# Altium integrated library Texas Instruments Interface RS-422.IntLib: 548 symbols (part 8 of 15)
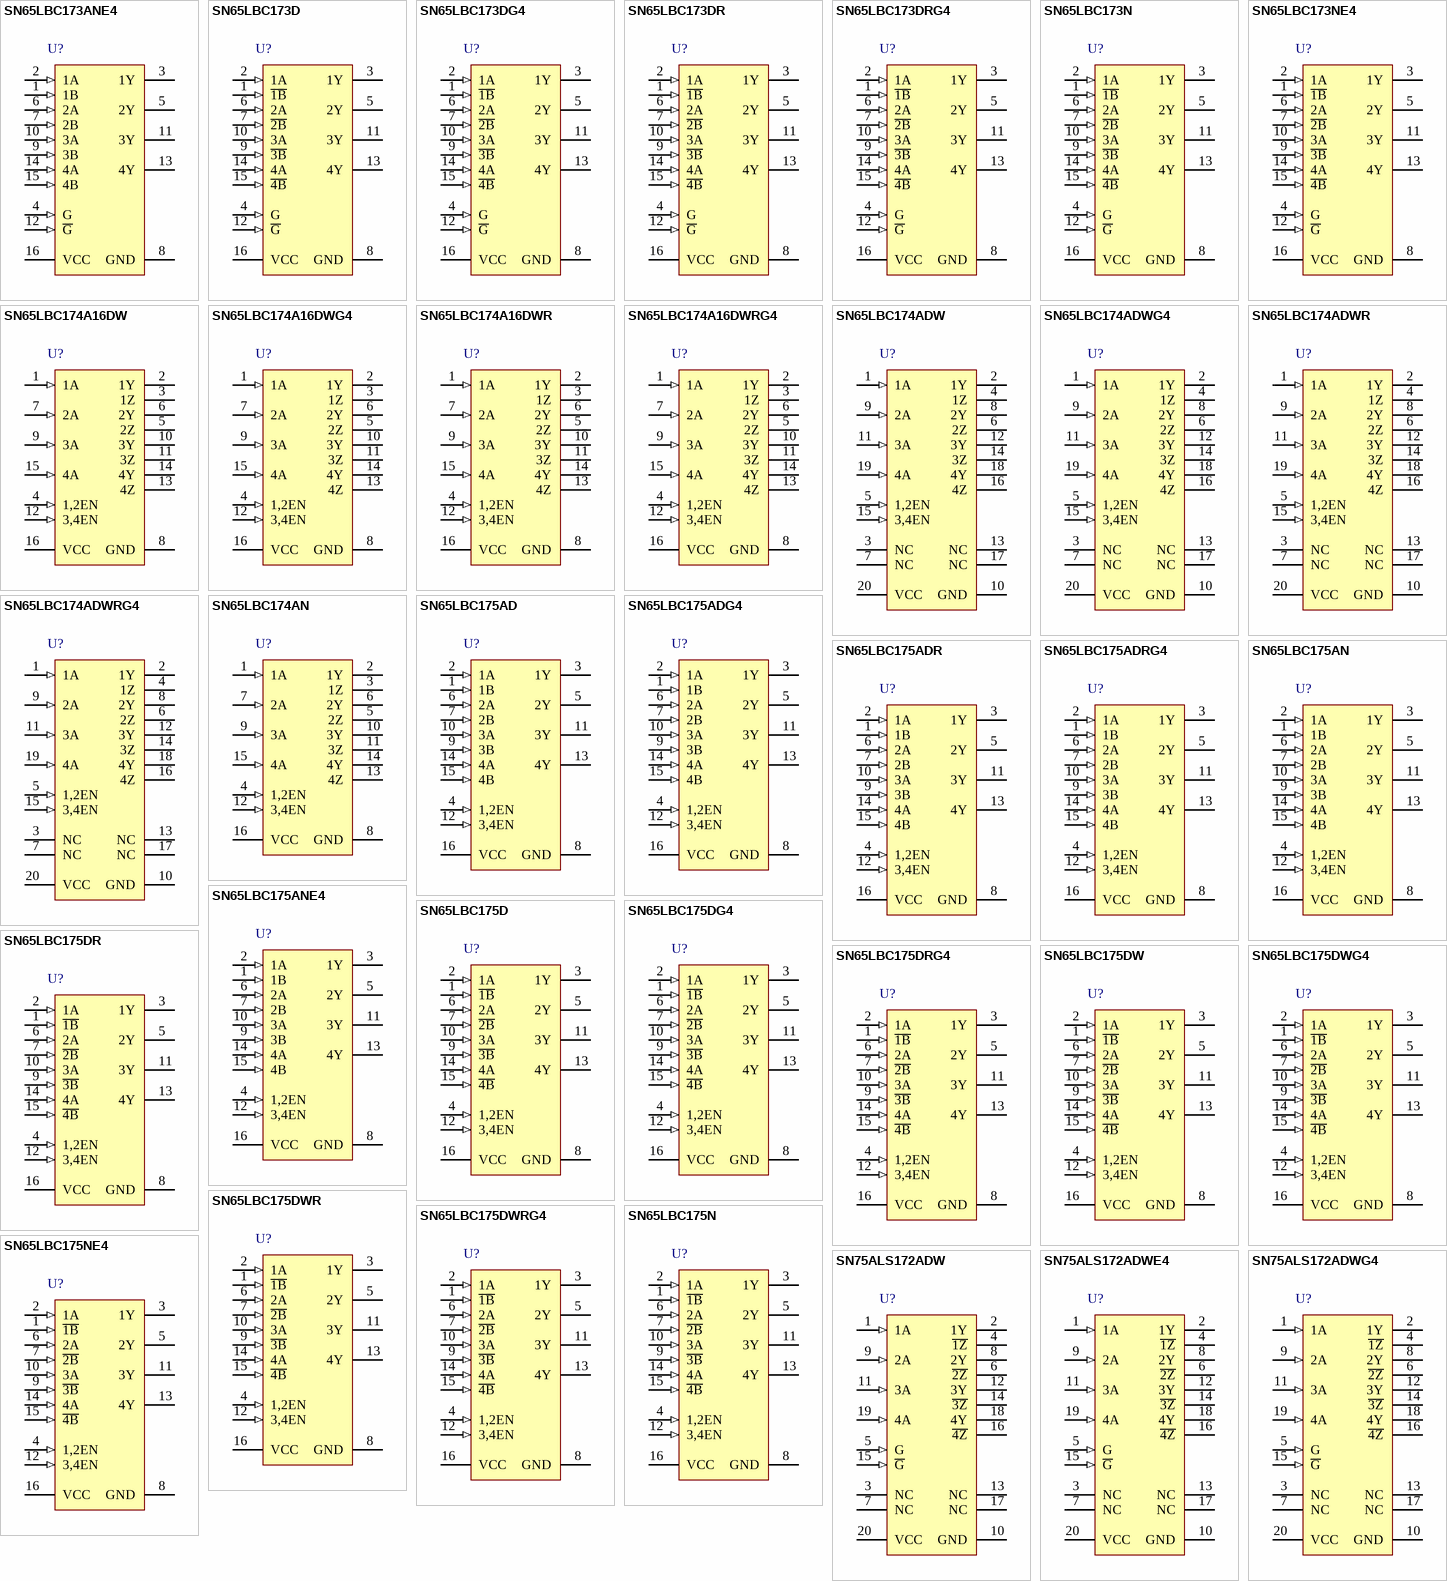
[diagram p22: symbols SN65LBC173ANE4 to SN75ALS172ADWG4]

## SN65LBC175AD
designator U?
Quadruple RS-485 Differential Line Receiver, 0 TX / 4 RX, 5V, -40 to 85 degC, 16-Pin SOIC (D), Green (RoHS & no Sb/Br); PartNumber: SN65LBC175AD; Manufacturer: Texas Instruments; SubFamily: RS-422; Receivers Per Package: 4; ICC(Max)(mA): 20; Supply Voltage(s)(V): 5; Rating: Catalog; DatasheetVersion: SLLS455C; PackageVersion: revM, Jun-2011; PackageReference: D16; PackageDescription: 16-Pin Plastic Small Outline Integrated Circuit, 9.9 x 3.9 mm, Pitch 1.27 mm Pitch; Mounting Technology: Surface Mount; Eco-Plan: Green (RoHS & no Sb/Br); # of TX/RX: 0 TX / 4 RX; ESD(kV): 5; Footprint: MC3486; Isolated: No; Code_JEDEC: MS-012AC; ComponentLink1Description: Datasheet; ComponentLink1URL: http://www.ti.com/general/docs/lit/getliterature.tsp?genericPartNumber=SN65LBC175A&fileType=pdf; ComponentLink2Description: Package Specification; ComponentLink2URL: http://www.ti.com/litv/pdf/mpds178g
footprint D16_N (SOIC, 16-Leads, Body 9.9x3.9mm, Pitch 1.27mm, IPC Medium Density)
footprint D16_L (SOIC, 16-Leads, Body 9.9x3.9mm, Pitch 1.27mm, IPC High Density)
footprint D16_M (SOIC, 16-Leads, Body 9.9x3.9mm, Pitch 1.27mm, IPC Low Density)
pins: 1 1B (in), 2 1A (in), 3 1Y (hiz), 4 1,2EN (in), 5 2Y (hiz), 6 2A (in), 7 2B (in), 8 GND (power), 9 3B (in), 10 3A (in), 11 3Y (hiz), 12 3,4EN (in), 13 4Y (hiz), 14 4A (in), 15 4B (in), 16 VCC (power)

## SN65LBC175ADG4
designator U?
Quadruple RS-485 Differential Line Receiver, 0 TX / 4 RX, 5V, -40 to 85 degC, 16-Pin SOIC (D), Green (RoHS & no Sb/Br); PartNumber: SN65LBC175ADG4; Manufacturer: Texas Instruments; SubFamily: RS-422; Receivers Per Package: 4; ICC(Max)(mA): 20; Supply Voltage(s)(V): 5; Rating: Catalog; DatasheetVersion: SLLS455C; PackageVersion: revM, Jun-2011; PackageReference: D16; PackageDescription: 16-Pin Plastic Small Outline Integrated Circuit, 9.9 x 3.9 mm, Pitch 1.27 mm Pitch; Mounting Technology: Surface Mount; Eco-Plan: Green (RoHS & no Sb/Br); # of TX/RX: 0 TX / 4 RX; ESD(kV): 5; Footprint: MC3486; Isolated: No; Code_JEDEC: MS-012AC; ComponentLink1Description: Datasheet; ComponentLink1URL: http://www.ti.com/general/docs/lit/getliterature.tsp?genericPartNumber=SN65LBC175A&fileType=pdf; ComponentLink2Description: Package Specification; ComponentLink2URL: http://www.ti.com/litv/pdf/mpds178g
footprint D16_N (SOIC, 16-Leads, Body 9.9x3.9mm, Pitch 1.27mm, IPC Medium Density)
footprint D16_L (SOIC, 16-Leads, Body 9.9x3.9mm, Pitch 1.27mm, IPC High Density)
footprint D16_M (SOIC, 16-Leads, Body 9.9x3.9mm, Pitch 1.27mm, IPC Low Density)
pins: 1 1B (in), 2 1A (in), 3 1Y (hiz), 4 1,2EN (in), 5 2Y (hiz), 6 2A (in), 7 2B (in), 8 GND (power), 9 3B (in), 10 3A (in), 11 3Y (hiz), 12 3,4EN (in), 13 4Y (hiz), 14 4A (in), 15 4B (in), 16 VCC (power)

## SN65LBC175ADR
designator U?
Quadruple RS-485 Differential Line Receiver, 0 TX / 4 RX, 5V, -40 to 85 degC, 16-Pin SOIC (D), Green (RoHS & no Sb/Br); PartNumber: SN65LBC175ADR; Manufacturer: Texas Instruments; SubFamily: RS-422; Receivers Per Package: 4; ICC(Max)(mA): 20; Supply Voltage(s)(V): 5; Rating: Catalog; DatasheetVersion: SLLS455C; PackageVersion: revM, Jun-2011; PackageReference: D16; PackageDescription: 16-Pin Plastic Small Outline Integrated Circuit, 9.9 x 3.9 mm, Pitch 1.27 mm Pitch; Mounting Technology: Surface Mount; Eco-Plan: Green (RoHS & no Sb/Br); # of TX/RX: 0 TX / 4 RX; ESD(kV): 5; Footprint: MC3486; Isolated: No; Code_JEDEC: MS-012AC; ComponentLink1Description: Datasheet; ComponentLink1URL: http://www.ti.com/general/docs/lit/getliterature.tsp?genericPartNumber=SN65LBC175A&fileType=pdf; ComponentLink2Description: Package Specification; ComponentLink2URL: http://www.ti.com/litv/pdf/mpds178g
footprint D16_N (SOIC, 16-Leads, Body 9.9x3.9mm, Pitch 1.27mm, IPC Medium Density)
footprint D16_L (SOIC, 16-Leads, Body 9.9x3.9mm, Pitch 1.27mm, IPC High Density)
footprint D16_M (SOIC, 16-Leads, Body 9.9x3.9mm, Pitch 1.27mm, IPC Low Density)
pins: 1 1B (in), 2 1A (in), 3 1Y (hiz), 4 1,2EN (in), 5 2Y (hiz), 6 2A (in), 7 2B (in), 8 GND (power), 9 3B (in), 10 3A (in), 11 3Y (hiz), 12 3,4EN (in), 13 4Y (hiz), 14 4A (in), 15 4B (in), 16 VCC (power)

## SN65LBC175ADRG4
designator U?
Quadruple RS-485 Differential Line Receiver, 0 TX / 4 RX, 5V, -40 to 85 degC, 16-Pin SOIC (D), Green (RoHS & no Sb/Br); PartNumber: SN65LBC175ADRG4; Manufacturer: Texas Instruments; SubFamily: RS-422; Receivers Per Package: 4; ICC(Max)(mA): 20; Supply Voltage(s)(V): 5; Rating: Catalog; DatasheetVersion: SLLS455C; PackageVersion: revM, Jun-2011; PackageReference: D16; PackageDescription: 16-Pin Plastic Small Outline Integrated Circuit, 9.9 x 3.9 mm, Pitch 1.27 mm Pitch; Mounting Technology: Surface Mount; Eco-Plan: Green (RoHS & no Sb/Br); # of TX/RX: 0 TX / 4 RX; ESD(kV): 5; Footprint: MC3486; Isolated: No; Code_JEDEC: MS-012AC; ComponentLink1Description: Datasheet; ComponentLink1URL: http://www.ti.com/general/docs/lit/getliterature.tsp?genericPartNumber=SN65LBC175A&fileType=pdf; ComponentLink2Description: Package Specification; ComponentLink2URL: http://www.ti.com/litv/pdf/mpds178g
footprint D16_N (SOIC, 16-Leads, Body 9.9x3.9mm, Pitch 1.27mm, IPC Medium Density)
footprint D16_L (SOIC, 16-Leads, Body 9.9x3.9mm, Pitch 1.27mm, IPC High Density)
footprint D16_M (SOIC, 16-Leads, Body 9.9x3.9mm, Pitch 1.27mm, IPC Low Density)
pins: 1 1B (in), 2 1A (in), 3 1Y (hiz), 4 1,2EN (in), 5 2Y (hiz), 6 2A (in), 7 2B (in), 8 GND (power), 9 3B (in), 10 3A (in), 11 3Y (hiz), 12 3,4EN (in), 13 4Y (hiz), 14 4A (in), 15 4B (in), 16 VCC (power)

## SN65LBC175AN
designator U?
Quadruple RS-485 Differential Line Receivers, 0 TX / 4 RX, 5V, -40 to 85 degC, 16-Pin PDIP (N), Green (RoHS & no Sb/Br); PartNumber: SN65LBC175AN; Manufacturer: Texas Instruments; SubFamily: RS-422; Receivers Per Package: 4; ICC(Max)(mA): 20; Supply Voltage(s)(V): 5; Rating: Catalog; DatasheetVersion: SLLS455C; PackageVersion: revE, Dec-2002; PackageReference: N16; PackageDescription: 16-Pin Plastic Dual-In-Line Package, Row Spacing 7.62 mm, Pitch 2.54 mm; Mounting Technology: Through-hole; Eco-Plan: Green (RoHS & no Sb/Br); # of TX/RX: 0 TX / 4 RX; ESD(kV): 5; Footprint: MC3486; Isolated: No; Code_JEDEC: MS-001*; ComponentLink1Description: Datasheet; ComponentLink1URL: http://www.ti.com/general/docs/lit/getliterature.tsp?genericPartNumber=SN65LBC175A&fileType=pdf; ComponentLink2Description: Package Specification; ComponentLink2URL: http://www.ti.com/lit/ml/mpdi002c/mpdi002c.pdf
footprint N16 (DIP, 16-Leads, Row Spacing 7.62mm, Pitch 2.54mm, Body 19.3x6.4mm)
pins: 1 1B (in), 2 1A (in), 3 1Y (hiz), 4 1,2EN (in), 5 2Y (hiz), 6 2A (in), 7 2B (in), 8 GND (power), 9 3B (in), 10 3A (in), 11 3Y (hiz), 12 3,4EN (in), 13 4Y (hiz), 14 4A (in), 15 4B (in), 16 VCC (power)

## SN65LBC175ANE4
designator U?
Quadruple Low-Power Differential Line Receiver, 0 TX / 4 RX, 5V, -40 to 85 degC, 16-Pin PDIP (N), Pb-Free (RoHS); PartNumber: SN65LBC175ANE4; Manufacturer: Texas Instruments; Eco-Plan: Green (RoHS & no Sb/Br); SubFamily: RS-422; Receivers Per Package: 4; ICC(Max)(mA): 20; Supply Voltage(s)(V): 5; Isolated: No; Rating: Catalog; DatasheetVersion: SLLS455C; PackageVersion: revE, Dec-2002; PackageReference: N16; PackageDescription: 16-Pin Plastic Dual-In-Line Package, Row Spacing 7.62 mm, Pitch 2.54 mm; Mounting Technology: Through-hole; # of TX/RX: 0 TX / 4 RX; ESD(kV): 5; Footprint: MC3486; Code_JEDEC: MS-001*; ComponentLink1Description: Datasheet; ComponentLink1URL: http://www.ti.com/general/docs/lit/getliterature.tsp?genericPartNumber=SN65LBC175A&fileType=pdf; ComponentLink2Description: Package Specification; ComponentLink2URL: http://www.ti.com/lit/ml/mpdi002c/mpdi002c.pdf
footprint N16 (DIP, 16-Leads, Row Spacing 7.62mm, Pitch 2.54mm, Body 19.3x6.4mm)
pins: 1 1B (in), 2 1A (in), 3 1Y (hiz), 4 1,2EN (in), 5 2Y (hiz), 6 2A (in), 7 2B (in), 8 GND (power), 9 3B (in), 10 3A (in), 11 3Y (hiz), 12 3,4EN (in), 13 4Y (hiz), 14 4A (in), 15 4B (in), 16 VCC (power)

## SN65LBC175D
designator U?
Quadruple Low-Power Differential Line Receiver, 0 TX / 4 RX, 5V, -40 to 85 degC, 16-Pin SOIC (D), Green (RoHS & no Sb/Br); PartNumber: SN65LBC175D; Manufacturer: Texas Instruments; SubFamily: RS-422; Receivers Per Package: 4; ICC(Max)(mA): 20; Supply Voltage(s)(V): 5; ESD(kV): 1; Rating: Catalog; DatasheetVersion: SLLS171G; PackageVersion: revM, Jun-2011; PackageReference: D16; PackageDescription: 16-Pin Plastic Small Outline Integrated Circuit, 9.9 x 3.9 mm, Pitch 1.27 mm Pitch; Mounting Technology: Surface Mount; Eco-Plan: Green (RoHS & no Sb/Br); # of TX/RX: 0 TX / 4 RX; Footprint: MC3486; Isolated: No; Code_JEDEC: MS-012AC; ComponentLink1Description: Datasheet; ComponentLink1URL: http://www.ti.com/general/docs/lit/getliterature.tsp?genericPartNumber=SN65LBC175&fileType=pdf; ComponentLink2Description: Package Specification; ComponentLink2URL: http://www.ti.com/litv/pdf/mpds178g
footprint D16_N (SOIC, 16-Leads, Body 9.9x3.9mm, Pitch 1.27mm, IPC Medium Density)
footprint D16_L (SOIC, 16-Leads, Body 9.9x3.9mm, Pitch 1.27mm, IPC High Density)
footprint D16_M (SOIC, 16-Leads, Body 9.9x3.9mm, Pitch 1.27mm, IPC Low Density)
pins: 1 ~{1B} (in), 2 1A (in), 3 1Y (hiz), 4 1,2EN (in), 5 2Y (hiz), 6 2A (in), 7 ~{2B} (in), 8 GND (power), 9 ~{3B} (in), 10 3A (in), 11 3Y (hiz), 12 3,4EN (in), 13 4Y (hiz), 14 4A (in), 15 ~{4B} (in), 16 VCC (power)

## SN65LBC175DG4
designator U?
Quadruple Low-Power Differential Line Receiver, 0 TX / 4 RX, 5V, -40 to 85 degC, 16-Pin SOIC (D), Green (RoHS & no Sb/Br); PartNumber: SN65LBC175DG4; Manufacturer: Texas Instruments; SubFamily: RS-422; Receivers Per Package: 4; ICC(Max)(mA): 20; Supply Voltage(s)(V): 5; ESD(kV): 1; Rating: Catalog; DatasheetVersion: SLLS171G; PackageVersion: revM, Jun-2011; PackageReference: D16; PackageDescription: 16-Pin Plastic Small Outline Integrated Circuit, 9.9 x 3.9 mm, Pitch 1.27 mm Pitch; Mounting Technology: Surface Mount; Eco-Plan: Green (RoHS & no Sb/Br); # of TX/RX: 0 TX / 4 RX; Footprint: MC3486; Isolated: No; Code_JEDEC: MS-012AC; ComponentLink1Description: Datasheet; ComponentLink1URL: http://www.ti.com/general/docs/lit/getliterature.tsp?genericPartNumber=SN65LBC175&fileType=pdf; ComponentLink2Description: Package Specification; ComponentLink2URL: http://www.ti.com/litv/pdf/mpds178g
footprint D16_N (SOIC, 16-Leads, Body 9.9x3.9mm, Pitch 1.27mm, IPC Medium Density)
footprint D16_L (SOIC, 16-Leads, Body 9.9x3.9mm, Pitch 1.27mm, IPC High Density)
footprint D16_M (SOIC, 16-Leads, Body 9.9x3.9mm, Pitch 1.27mm, IPC Low Density)
pins: 1 ~{1B} (in), 2 1A (in), 3 1Y (hiz), 4 1,2EN (in), 5 2Y (hiz), 6 2A (in), 7 ~{2B} (in), 8 GND (power), 9 ~{3B} (in), 10 3A (in), 11 3Y (hiz), 12 3,4EN (in), 13 4Y (hiz), 14 4A (in), 15 ~{4B} (in), 16 VCC (power)

## SN65LBC175DR
designator U?
Quadruple Low-Power Differential Line Receiver, 0 TX / 4 RX, 5V, -40 to 85 degC, 16-Pin SOIC (D), Green (RoHS & no Sb/Br); PartNumber: SN65LBC175DR; Manufacturer: Texas Instruments; SubFamily: RS-422; Receivers Per Package: 4; ICC(Max)(mA): 20; Supply Voltage(s)(V): 5; ESD(kV): 1; Rating: Catalog; DatasheetVersion: SLLS171G; PackageVersion: revM, Jun-2011; PackageReference: D16; PackageDescription: 16-Pin Plastic Small Outline Integrated Circuit, 9.9 x 3.9 mm, Pitch 1.27 mm Pitch; Mounting Technology: Surface Mount; Eco-Plan: Green (RoHS & no Sb/Br); # of TX/RX: 0 TX / 4 RX; Footprint: MC3486; Isolated: No; Code_JEDEC: MS-012AC; ComponentLink1Description: Datasheet; ComponentLink1URL: http://www.ti.com/general/docs/lit/getliterature.tsp?genericPartNumber=SN65LBC175&fileType=pdf; ComponentLink2Description: Package Specification; ComponentLink2URL: http://www.ti.com/litv/pdf/mpds178g
footprint D16_N (SOIC, 16-Leads, Body 9.9x3.9mm, Pitch 1.27mm, IPC Medium Density)
footprint D16_L (SOIC, 16-Leads, Body 9.9x3.9mm, Pitch 1.27mm, IPC High Density)
footprint D16_M (SOIC, 16-Leads, Body 9.9x3.9mm, Pitch 1.27mm, IPC Low Density)
pins: 1 ~{1B} (in), 2 1A (in), 3 1Y (hiz), 4 1,2EN (in), 5 2Y (hiz), 6 2A (in), 7 ~{2B} (in), 8 GND (power), 9 ~{3B} (in), 10 3A (in), 11 3Y (hiz), 12 3,4EN (in), 13 4Y (hiz), 14 4A (in), 15 ~{4B} (in), 16 VCC (power)

## SN65LBC175DRG4
designator U?
Quadruple Low-Power Differential Line Receiver, 0 TX / 4 RX, 5V, -40 to 85 degC, 16-Pin SOIC (D), Green (RoHS & no Sb/Br); PartNumber: SN65LBC175DRG4; Manufacturer: Texas Instruments; SubFamily: RS-422; Receivers Per Package: 4; ICC(Max)(mA): 20; Supply Voltage(s)(V): 5; ESD(kV): 1; Rating: Catalog; DatasheetVersion: SLLS171G; PackageVersion: revM, Jun-2011; PackageReference: D16; PackageDescription: 16-Pin Plastic Small Outline Integrated Circuit, 9.9 x 3.9 mm, Pitch 1.27 mm Pitch; Mounting Technology: Surface Mount; Eco-Plan: Green (RoHS & no Sb/Br); # of TX/RX: 0 TX / 4 RX; Footprint: MC3486; Isolated: No; Code_JEDEC: MS-012AC; ComponentLink1Description: Datasheet; ComponentLink1URL: http://www.ti.com/general/docs/lit/getliterature.tsp?genericPartNumber=SN65LBC175&fileType=pdf; ComponentLink2Description: Package Specification; ComponentLink2URL: http://www.ti.com/litv/pdf/mpds178g
footprint D16_N (SOIC, 16-Leads, Body 9.9x3.9mm, Pitch 1.27mm, IPC Medium Density)
footprint D16_L (SOIC, 16-Leads, Body 9.9x3.9mm, Pitch 1.27mm, IPC High Density)
footprint D16_M (SOIC, 16-Leads, Body 9.9x3.9mm, Pitch 1.27mm, IPC Low Density)
pins: 1 ~{1B} (in), 2 1A (in), 3 1Y (hiz), 4 1,2EN (in), 5 2Y (hiz), 6 2A (in), 7 ~{2B} (in), 8 GND (power), 9 ~{3B} (in), 10 3A (in), 11 3Y (hiz), 12 3,4EN (in), 13 4Y (hiz), 14 4A (in), 15 ~{4B} (in), 16 VCC (power)

## SN65LBC175DW
designator U?
Quadruple Low-Power Differential Line Receiver, 0 TX / 4 RX, 5V, -40 to 85 degC, 16-Pin SOIC (DW), Green (RoHS & no Sb/Br); PartNumber: SN65LBC175DW; Manufacturer: Texas Instruments; SubFamily: RS-422; Receivers Per Package: 4; ICC(Max)(mA): 20; Supply Voltage(s)(V): 5; ESD(kV): 1; Rating: Catalog; DatasheetVersion: SLLS171G; PackageVersion: revG, Jan-2011; PackageReference: DW16; PackageDescription: 16-Pin Small Outline Integrated Circuit, 10.3 x 7.5 mm, Pitch 1.27 mm Pitch; Mounting Technology: Surface Mount; Eco-Plan: Green (RoHS & no Sb/Br); # of TX/RX: 0 TX / 4 RX; Footprint: MC3486; Isolated: No; Code_JEDEC: MS-013-AA; ComponentLink1Description: Datasheet; ComponentLink1URL: http://www.ti.com/general/docs/lit/getliterature.tsp?genericPartNumber=SN65LBC175&fileType=pdf; ComponentLink2Description: Package Specification; ComponentLink2URL: http://www.ti.com/litv/pdf/msoi003g
footprint DW16_N (SOIC, 16-Leads, Body 10.3x7.5mm, Pitch 1.27mm, IPC Medium Density)
footprint DW16_L (SOIC, 16-Leads, Body 10.3x7.5mm, Pitch 1.27mm, IPC High Density)
footprint DW16_M (SOIC, 16-Leads, Body 10.3x7.5mm, Pitch 1.27mm, IPC Low Density)
pins: 1 ~{1B} (in), 2 1A (in), 3 1Y (hiz), 4 1,2EN (in), 5 2Y (hiz), 6 2A (in), 7 ~{2B} (in), 8 GND (power), 9 ~{3B} (in), 10 3A (in), 11 3Y (hiz), 12 3,4EN (in), 13 4Y (hiz), 14 4A (in), 15 ~{4B} (in), 16 VCC (power)

## SN65LBC175DWG4
designator U?
Quadruple Low-Power Differential Line Receiver, 0 TX / 4 RX, 5V, -40 to 85 degC, 16-Pin SOIC (DW), Green (RoHS & no Sb/Br); PartNumber: SN65LBC175DWG4; Manufacturer: Texas Instruments; SubFamily: RS-422; Receivers Per Package: 4; ICC(Max)(mA): 20; Supply Voltage(s)(V): 5; ESD(kV): 1; Rating: Catalog; DatasheetVersion: SLLS171G; PackageVersion: revG, Jan-2011; PackageReference: DW16; PackageDescription: 16-Pin Small Outline Integrated Circuit, 10.3 x 7.5 mm, Pitch 1.27 mm Pitch; Mounting Technology: Surface Mount; Eco-Plan: Green (RoHS & no Sb/Br); # of TX/RX: 0 TX / 4 RX; Footprint: MC3486; Isolated: No; Code_JEDEC: MS-013-AA; ComponentLink1Description: Datasheet; ComponentLink1URL: http://www.ti.com/general/docs/lit/getliterature.tsp?genericPartNumber=SN65LBC175&fileType=pdf; ComponentLink2Description: Package Specification; ComponentLink2URL: http://www.ti.com/litv/pdf/msoi003g
footprint DW16_N (SOIC, 16-Leads, Body 10.3x7.5mm, Pitch 1.27mm, IPC Medium Density)
footprint DW16_L (SOIC, 16-Leads, Body 10.3x7.5mm, Pitch 1.27mm, IPC High Density)
footprint DW16_M (SOIC, 16-Leads, Body 10.3x7.5mm, Pitch 1.27mm, IPC Low Density)
pins: 1 ~{1B} (in), 2 1A (in), 3 1Y (hiz), 4 1,2EN (in), 5 2Y (hiz), 6 2A (in), 7 ~{2B} (in), 8 GND (power), 9 ~{3B} (in), 10 3A (in), 11 3Y (hiz), 12 3,4EN (in), 13 4Y (hiz), 14 4A (in), 15 ~{4B} (in), 16 VCC (power)

## SN65LBC175DWR
designator U?
Quadruple Low-Power Differential Line Receiver, 0 TX / 4 RX, 5V, -40 to 85 degC, 16-Pin SOIC (DW), Green (RoHS & no Sb/Br); PartNumber: SN65LBC175DWR; Manufacturer: Texas Instruments; SubFamily: RS-422; Receivers Per Package: 4; ICC(Max)(mA): 20; Supply Voltage(s)(V): 5; ESD(kV): 1; Rating: Catalog; DatasheetVersion: SLLS171G; PackageVersion: revG, Jan-2011; PackageReference: DW16; PackageDescription: 16-Pin Small Outline Integrated Circuit, 10.3 x 7.5 mm, Pitch 1.27 mm Pitch; Mounting Technology: Surface Mount; Eco-Plan: Green (RoHS & no Sb/Br); # of TX/RX: 0 TX / 4 RX; Footprint: MC3486; Isolated: No; Code_JEDEC: MS-013-AA; ComponentLink1Description: Datasheet; ComponentLink1URL: http://www.ti.com/general/docs/lit/getliterature.tsp?genericPartNumber=SN65LBC175&fileType=pdf; ComponentLink2Description: Package Specification; ComponentLink2URL: http://www.ti.com/litv/pdf/msoi003g
footprint DW16_N (SOIC, 16-Leads, Body 10.3x7.5mm, Pitch 1.27mm, IPC Medium Density)
footprint DW16_L (SOIC, 16-Leads, Body 10.3x7.5mm, Pitch 1.27mm, IPC High Density)
footprint DW16_M (SOIC, 16-Leads, Body 10.3x7.5mm, Pitch 1.27mm, IPC Low Density)
pins: 1 ~{1B} (in), 2 1A (in), 3 1Y (hiz), 4 1,2EN (in), 5 2Y (hiz), 6 2A (in), 7 ~{2B} (in), 8 GND (power), 9 ~{3B} (in), 10 3A (in), 11 3Y (hiz), 12 3,4EN (in), 13 4Y (hiz), 14 4A (in), 15 ~{4B} (in), 16 VCC (power)

## SN65LBC175DWRG4
designator U?
Quadruple Low-Power Differential Line Receiver, 0 TX / 4 RX, 5V, -40 to 85 degC, 16-Pin SOIC (DW), Green (RoHS & no Sb/Br); PartNumber: SN65LBC175DWRG4; Manufacturer: Texas Instruments; SubFamily: RS-422; Receivers Per Package: 4; ICC(Max)(mA): 20; Supply Voltage(s)(V): 5; ESD(kV): 1; Rating: Catalog; DatasheetVersion: SLLS171G; PackageVersion: revG, Jan-2011; PackageReference: DW16; PackageDescription: 16-Pin Small Outline Integrated Circuit, 10.3 x 7.5 mm, Pitch 1.27 mm Pitch; Mounting Technology: Surface Mount; Eco-Plan: Green (RoHS & no Sb/Br); # of TX/RX: 0 TX / 4 RX; Footprint: MC3486; Isolated: No; Code_JEDEC: MS-013-AA; ComponentLink1Description: Datasheet; ComponentLink1URL: http://www.ti.com/general/docs/lit/getliterature.tsp?genericPartNumber=SN65LBC175&fileType=pdf; ComponentLink2Description: Package Specification; ComponentLink2URL: http://www.ti.com/litv/pdf/msoi003g
footprint DW16_N (SOIC, 16-Leads, Body 10.3x7.5mm, Pitch 1.27mm, IPC Medium Density)
footprint DW16_L (SOIC, 16-Leads, Body 10.3x7.5mm, Pitch 1.27mm, IPC High Density)
footprint DW16_M (SOIC, 16-Leads, Body 10.3x7.5mm, Pitch 1.27mm, IPC Low Density)
pins: 1 ~{1B} (in), 2 1A (in), 3 1Y (hiz), 4 1,2EN (in), 5 2Y (hiz), 6 2A (in), 7 ~{2B} (in), 8 GND (power), 9 ~{3B} (in), 10 3A (in), 11 3Y (hiz), 12 3,4EN (in), 13 4Y (hiz), 14 4A (in), 15 ~{4B} (in), 16 VCC (power)

## SN65LBC175N
designator U?
Quadruple Low-Power Differential Line Receiver, 0 TX / 4 RX, 5V, -40 to 85 degC, 16-Pin PDIP (N), Green (RoHS & no Sb/Br); PartNumber: SN65LBC175N; Manufacturer: Texas Instruments; SubFamily: RS-422; Receivers Per Package: 4; ICC(Max)(mA): 20; Supply Voltage(s)(V): 5; ESD(kV): 1; Rating: Catalog; DatasheetVersion: SLLS171G; PackageVersion: revE, Dec-2002; PackageReference: N16; PackageDescription: 16-Pin Plastic Dual-In-Line Package, Row Spacing 7.62 mm, Pitch 2.54 mm; Mounting Technology: Through-hole; Eco-Plan: Green (RoHS & no Sb/Br); # of TX/RX: 0 TX / 4 RX; Footprint: MC3486; Isolated: No; Code_JEDEC: MS-001*; ComponentLink1Description: Datasheet; ComponentLink1URL: http://www.ti.com/general/docs/lit/getliterature.tsp?genericPartNumber=SN65LBC175&fileType=pdf; ComponentLink2Description: Package Specification; ComponentLink2URL: http://www.ti.com/lit/ml/mpdi002c/mpdi002c.pdf
footprint N16 (DIP, 16-Leads, Row Spacing 7.62mm, Pitch 2.54mm, Body 19.3x6.4mm)
pins: 1 ~{1B} (in), 2 1A (in), 3 1Y (hiz), 4 1,2EN (in), 5 2Y (hiz), 6 2A (in), 7 ~{2B} (in), 8 GND (power), 9 ~{3B} (in), 10 3A (in), 11 3Y (hiz), 12 3,4EN (in), 13 4Y (hiz), 14 4A (in), 15 ~{4B} (in), 16 VCC (power)

## SN65LBC175NE4
designator U?
Quadruple Low-Power Differential Line Receiver, 0 TX / 4 RX, 5V, -40 to 85 degC, 16-Pin PDIP (N), Green (RoHS & no Sb/Br); PartNumber: SN65LBC175NE4; Manufacturer: Texas Instruments; SubFamily: RS-422; Receivers Per Package: 4; ICC(Max)(mA): 20; Supply Voltage(s)(V): 5; ESD(kV): 1; Rating: Catalog; DatasheetVersion: SLLS171G; PackageVersion: revE, Dec-2002; PackageReference: N16; PackageDescription: 16-Pin Plastic Dual-In-Line Package, Row Spacing 7.62 mm, Pitch 2.54 mm; Mounting Technology: Through-hole; Eco-Plan: Green (RoHS & no Sb/Br); # of TX/RX: 0 TX / 4 RX; Footprint: MC3486; Isolated: No; Code_JEDEC: MS-001*; ComponentLink1Description: Datasheet; ComponentLink1URL: http://www.ti.com/general/docs/lit/getliterature.tsp?genericPartNumber=SN65LBC175&fileType=pdf; ComponentLink2Description: Package Specification; ComponentLink2URL: http://www.ti.com/lit/ml/mpdi002c/mpdi002c.pdf
footprint N16 (DIP, 16-Leads, Row Spacing 7.62mm, Pitch 2.54mm, Body 19.3x6.4mm)
pins: 1 ~{1B} (in), 2 1A (in), 3 1Y (hiz), 4 1,2EN (in), 5 2Y (hiz), 6 2A (in), 7 ~{2B} (in), 8 GND (power), 9 ~{3B} (in), 10 3A (in), 11 3Y (hiz), 12 3,4EN (in), 13 4Y (hiz), 14 4A (in), 15 ~{4B} (in), 16 VCC (power)

## SN75ALS172ADW
designator U?
Quadruple Differential Line Driver, 4 TX / 0 RX, 5V, 0 to 70 degC, 20-Pin SOIC (DW), Green (RoHS & no Sb/Br); PartNumber: SN75ALS172ADW; Manufacturer: Texas Instruments; SubFamily: RS-422; Drivers Per Package: 4; ICC(Max)(mA): 55; Supply Voltage(s)(V): 5; ESD(kV): 2; Rating: Catalog; DatasheetVersion: SLLS121D; PackageVersion: revG, Jan-2011; PackageReference: DW20; PackageDescription: 20-Pin Plastic Small Outline Integrated Circuit, 12.8 x 7.5 mm, Pitch 1.27 mm Pitch; Mounting Technology: Surface Mount; Eco-Plan: Green (RoHS & no Sb/Br); # of TX/RX: 4 TX / 0 RX; Footprint: AM26LS31; Isolated: No; Code_JEDEC: MS-013-AC; ComponentLink1Description: Datasheet; ComponentLink1URL: http://www.ti.com/general/docs/lit/getliterature.tsp?genericPartNumber=SN75ALS172A&fileType=pdf; ComponentLink2Description: Package Specification; ComponentLink2URL: http://www.ti.com/lit/ml/mpds173a/mpds173a.pdf
footprint DW20_N (SOIC, 20-Leads, Body 12.8x7.5mm, Pitch 1.27mm, IPC Medium Density)
footprint DW20_L (SOIC, 20-Leads, Body 12.8x7.5mm, Pitch 1.27mm, IPC High Density)
footprint DW20_M (SOIC, 20-Leads, Body 12.8x7.5mm, Pitch 1.27mm, IPC Low Density)
pins: 1 1A (in), 2 1Y (hiz), 3 NC, 4 ~{1Z} (hiz), 5 G (in), 6 ~{2Z} (hiz), 7 NC, 8 2Y (hiz), 9 2A (in), 10 GND (power), 11 3A (in), 12 3Y (hiz), 13 NC, 14 ~{3Z} (hiz), 15 ~{G} (in), 16 ~{4Z} (hiz), 17 NC, 18 4Y (hiz), 19 4A (in), 20 VCC (power)

## SN75ALS172ADWE4
designator U?
Quadruple Differential Line Driver, 4 TX / 0 RX, 5V, 0 to 70 degC, 20-Pin SOIC (DW), Green (RoHS & no Sb/Br); PartNumber: SN75ALS172ADWE4; Manufacturer: Texas Instruments; SubFamily: RS-422; Drivers Per Package: 4; ICC(Max)(mA): 55; Supply Voltage(s)(V): 5; ESD(kV): 2; Rating: Catalog; DatasheetVersion: SLLS121D; PackageVersion: revG, Jan-2011; PackageReference: DW20; PackageDescription: 20-Pin Plastic Small Outline Integrated Circuit, 12.8 x 7.5 mm, Pitch 1.27 mm Pitch; Mounting Technology: Surface Mount; Eco-Plan: Green (RoHS & no Sb/Br); # of TX/RX: 4 TX / 0 RX; Footprint: AM26LS31; Isolated: No; Code_JEDEC: MS-013-AC; ComponentLink1Description: Datasheet; ComponentLink1URL: http://www.ti.com/general/docs/lit/getliterature.tsp?genericPartNumber=SN75ALS172A&fileType=pdf; ComponentLink2Description: Package Specification; ComponentLink2URL: http://www.ti.com/lit/ml/mpds173a/mpds173a.pdf
footprint DW20_N (SOIC, 20-Leads, Body 12.8x7.5mm, Pitch 1.27mm, IPC Medium Density)
footprint DW20_L (SOIC, 20-Leads, Body 12.8x7.5mm, Pitch 1.27mm, IPC High Density)
footprint DW20_M (SOIC, 20-Leads, Body 12.8x7.5mm, Pitch 1.27mm, IPC Low Density)
pins: 1 1A (in), 2 1Y (hiz), 3 NC, 4 ~{1Z} (hiz), 5 G (in), 6 ~{2Z} (hiz), 7 NC, 8 2Y (hiz), 9 2A (in), 10 GND (power), 11 3A (in), 12 3Y (hiz), 13 NC, 14 ~{3Z} (hiz), 15 ~{G} (in), 16 ~{4Z} (hiz), 17 NC, 18 4Y (hiz), 19 4A (in), 20 VCC (power)

## SN75ALS172ADWG4
designator U?
Quadruple Differential Line Driver, 4 TX / 0 RX, 5V, 0 to 70 degC, 20-Pin SOIC (DW), Green (RoHS & no Sb/Br); PartNumber: SN75ALS172ADWG4; Manufacturer: Texas Instruments; SubFamily: RS-422; Drivers Per Package: 4; ICC(Max)(mA): 55; Supply Voltage(s)(V): 5; ESD(kV): 2; Rating: Catalog; DatasheetVersion: SLLS121D; PackageVersion: revG, Jan-2011; PackageReference: DW20; PackageDescription: 20-Pin Plastic Small Outline Integrated Circuit, 12.8 x 7.5 mm, Pitch 1.27 mm Pitch; Mounting Technology: Surface Mount; Eco-Plan: Green (RoHS & no Sb/Br); # of TX/RX: 4 TX / 0 RX; Footprint: AM26LS31; Isolated: No; Code_JEDEC: MS-013-AC; ComponentLink1Description: Datasheet; ComponentLink1URL: http://www.ti.com/general/docs/lit/getliterature.tsp?genericPartNumber=SN75ALS172A&fileType=pdf; ComponentLink2Description: Package Specification; ComponentLink2URL: http://www.ti.com/lit/ml/mpds173a/mpds173a.pdf
footprint DW20_N (SOIC, 20-Leads, Body 12.8x7.5mm, Pitch 1.27mm, IPC Medium Density)
footprint DW20_L (SOIC, 20-Leads, Body 12.8x7.5mm, Pitch 1.27mm, IPC High Density)
footprint DW20_M (SOIC, 20-Leads, Body 12.8x7.5mm, Pitch 1.27mm, IPC Low Density)
pins: 1 1A (in), 2 1Y (hiz), 3 NC, 4 ~{1Z} (hiz), 5 G (in), 6 ~{2Z} (hiz), 7 NC, 8 2Y (hiz), 9 2A (in), 10 GND (power), 11 3A (in), 12 3Y (hiz), 13 NC, 14 ~{3Z} (hiz), 15 ~{G} (in), 16 ~{4Z} (hiz), 17 NC, 18 4Y (hiz), 19 4A (in), 20 VCC (power)

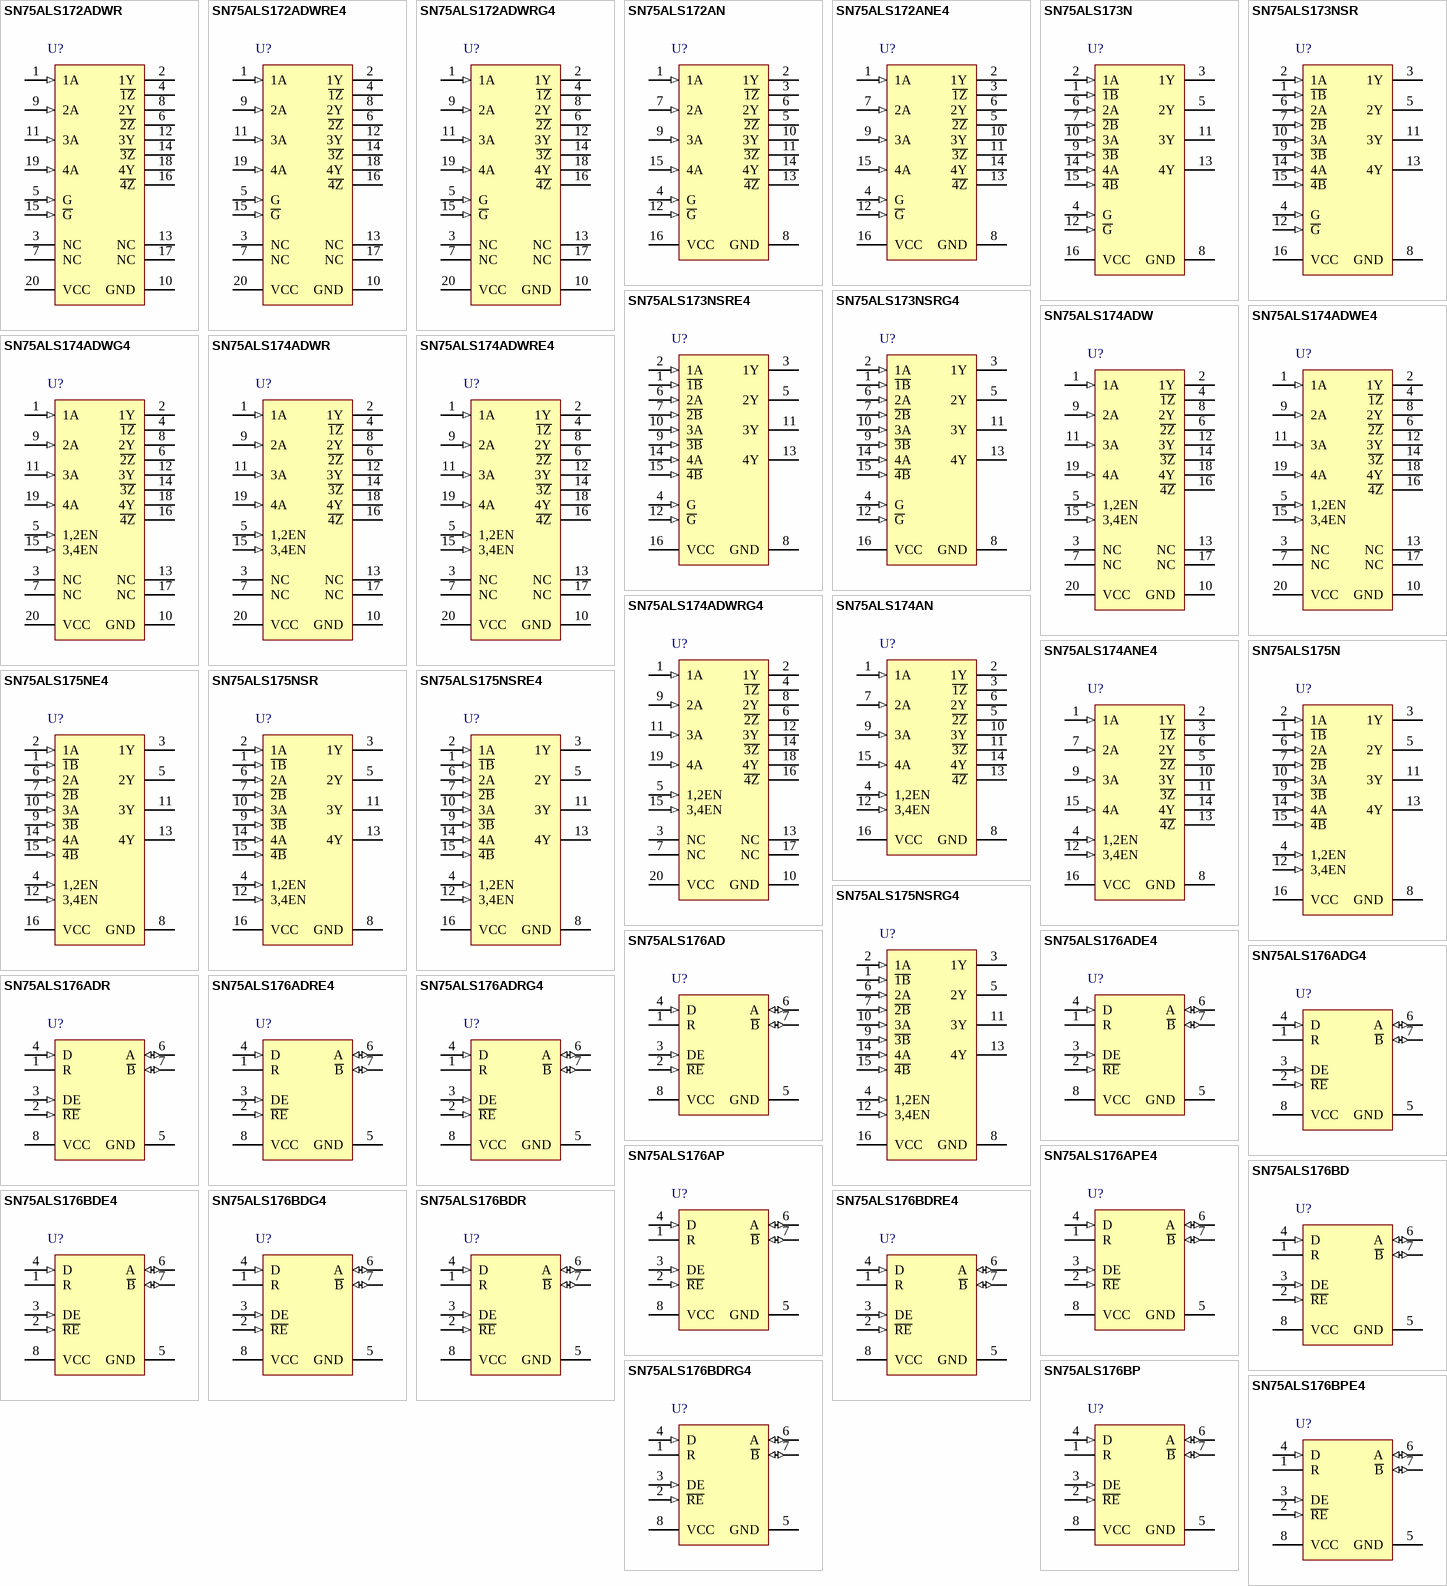
[diagram p8: symbols SN75ALS172ADWR to SN75ALS176BPE4]

## SN75ALS172ADWR
designator U?
Quadruple Differential Line Driver, 4 TX / 0 RX, 5V, 0 to 70 degC, 20-Pin SOIC (DW), Green (RoHS & no Sb/Br); PartNumber: SN75ALS172ADWR; Manufacturer: Texas Instruments; SubFamily: RS-422; Drivers Per Package: 4; ICC(Max)(mA): 55; Supply Voltage(s)(V): 5; ESD(kV): 2; Rating: Catalog; DatasheetVersion: SLLS121D; PackageVersion: revG, Jan-2011; PackageReference: DW20; PackageDescription: 20-Pin Plastic Small Outline Integrated Circuit, 12.8 x 7.5 mm, Pitch 1.27 mm Pitch; Mounting Technology: Surface Mount; Eco-Plan: Green (RoHS & no Sb/Br); # of TX/RX: 4 TX / 0 RX; Footprint: AM26LS31; Isolated: No; Code_JEDEC: MS-013-AC; ComponentLink1Description: Datasheet; ComponentLink1URL: http://www.ti.com/general/docs/lit/getliterature.tsp?genericPartNumber=SN75ALS172A&fileType=pdf; ComponentLink2Description: Package Specification; ComponentLink2URL: http://www.ti.com/lit/ml/mpds173a/mpds173a.pdf
footprint DW20_N (SOIC, 20-Leads, Body 12.8x7.5mm, Pitch 1.27mm, IPC Medium Density)
footprint DW20_L (SOIC, 20-Leads, Body 12.8x7.5mm, Pitch 1.27mm, IPC High Density)
footprint DW20_M (SOIC, 20-Leads, Body 12.8x7.5mm, Pitch 1.27mm, IPC Low Density)
pins: 1 1A (in), 2 1Y (hiz), 3 NC, 4 ~{1Z} (hiz), 5 G (in), 6 ~{2Z} (hiz), 7 NC, 8 2Y (hiz), 9 2A (in), 10 GND (power), 11 3A (in), 12 3Y (hiz), 13 NC, 14 ~{3Z} (hiz), 15 ~{G} (in), 16 ~{4Z} (hiz), 17 NC, 18 4Y (hiz), 19 4A (in), 20 VCC (power)

## SN75ALS172ADWRE4
designator U?
Quadruple Differential Line Driver, 4 TX / 0 RX, 5V, 0 to 70 degC, 20-Pin SOIC (DW), Green (RoHS & no Sb/Br); PartNumber: SN75ALS172ADWRE4; Manufacturer: Texas Instruments; SubFamily: RS-422; Drivers Per Package: 4; ICC(Max)(mA): 55; Supply Voltage(s)(V): 5; ESD(kV): 2; Rating: Catalog; DatasheetVersion: SLLS121D; PackageVersion: revG, Jan-2011; PackageReference: DW20; PackageDescription: 20-Pin Plastic Small Outline Integrated Circuit, 12.8 x 7.5 mm, Pitch 1.27 mm Pitch; Mounting Technology: Surface Mount; Eco-Plan: Green (RoHS & no Sb/Br); # of TX/RX: 4 TX / 0 RX; Footprint: AM26LS31; Isolated: No; Code_JEDEC: MS-013-AC; ComponentLink1Description: Datasheet; ComponentLink1URL: http://www.ti.com/general/docs/lit/getliterature.tsp?genericPartNumber=SN75ALS172A&fileType=pdf; ComponentLink2Description: Package Specification; ComponentLink2URL: http://www.ti.com/lit/ml/mpds173a/mpds173a.pdf
footprint DW20_N (SOIC, 20-Leads, Body 12.8x7.5mm, Pitch 1.27mm, IPC Medium Density)
footprint DW20_L (SOIC, 20-Leads, Body 12.8x7.5mm, Pitch 1.27mm, IPC High Density)
footprint DW20_M (SOIC, 20-Leads, Body 12.8x7.5mm, Pitch 1.27mm, IPC Low Density)
pins: 1 1A (in), 2 1Y (hiz), 3 NC, 4 ~{1Z} (hiz), 5 G (in), 6 ~{2Z} (hiz), 7 NC, 8 2Y (hiz), 9 2A (in), 10 GND (power), 11 3A (in), 12 3Y (hiz), 13 NC, 14 ~{3Z} (hiz), 15 ~{G} (in), 16 ~{4Z} (hiz), 17 NC, 18 4Y (hiz), 19 4A (in), 20 VCC (power)

## SN75ALS172ADWRG4
designator U?
Quadruple Differential Line Driver, 4 TX / 0 RX, 5V, 0 to 70 degC, 20-Pin SOIC (DW), Green (RoHS & no Sb/Br); PartNumber: SN75ALS172ADWRG4; Manufacturer: Texas Instruments; SubFamily: RS-422; Drivers Per Package: 4; ICC(Max)(mA): 55; Supply Voltage(s)(V): 5; ESD(kV): 2; Rating: Catalog; DatasheetVersion: SLLS121D; PackageVersion: revG, Jan-2011; PackageReference: DW20; PackageDescription: 20-Pin Plastic Small Outline Integrated Circuit, 12.8 x 7.5 mm, Pitch 1.27 mm Pitch; Mounting Technology: Surface Mount; Eco-Plan: Green (RoHS & no Sb/Br); # of TX/RX: 4 TX / 0 RX; Footprint: AM26LS31; Isolated: No; Code_JEDEC: MS-013-AC; ComponentLink1Description: Datasheet; ComponentLink1URL: http://www.ti.com/general/docs/lit/getliterature.tsp?genericPartNumber=SN75ALS172A&fileType=pdf; ComponentLink2Description: Package Specification; ComponentLink2URL: http://www.ti.com/lit/ml/mpds173a/mpds173a.pdf
footprint DW20_N (SOIC, 20-Leads, Body 12.8x7.5mm, Pitch 1.27mm, IPC Medium Density)
footprint DW20_L (SOIC, 20-Leads, Body 12.8x7.5mm, Pitch 1.27mm, IPC High Density)
footprint DW20_M (SOIC, 20-Leads, Body 12.8x7.5mm, Pitch 1.27mm, IPC Low Density)
pins: 1 1A (in), 2 1Y (hiz), 3 NC, 4 ~{1Z} (hiz), 5 G (in), 6 ~{2Z} (hiz), 7 NC, 8 2Y (hiz), 9 2A (in), 10 GND (power), 11 3A (in), 12 3Y (hiz), 13 NC, 14 ~{3Z} (hiz), 15 ~{G} (in), 16 ~{4Z} (hiz), 17 NC, 18 4Y (hiz), 19 4A (in), 20 VCC (power)

## SN75ALS172AN
designator U?
Quadruple Differential Line Driver, 4 TX / 0 RX, 5V, 0 to 70 degC, 16-Pin PDIP (N), Green (RoHS & no Sb/Br); PartNumber: SN75ALS172AN; Manufacturer: Texas Instruments; SubFamily: RS-422; Drivers Per Package: 4; ICC(Max)(mA): 55; Supply Voltage(s)(V): 5; ESD(kV): 2; Rating: Catalog; DatasheetVersion: SLLS121D; PackageVersion: revE, Dec-2002; PackageReference: N16; PackageDescription: 16-Pin Plastic Dual-In-Line Package, Row Spacing 7.62 mm, Pitch 2.54 mm; Mounting Technology: Through-hole; Eco-Plan: Green (RoHS & no Sb/Br); # of TX/RX: 4 TX / 0 RX; Footprint: AM26LS31; Isolated: No; Code_JEDEC: MS-001*; ComponentLink1Description: Datasheet; ComponentLink1URL: http://www.ti.com/general/docs/lit/getliterature.tsp?genericPartNumber=SN75ALS172A&fileType=pdf; ComponentLink2Description: Package Specification; ComponentLink2URL: http://www.ti.com/lit/ml/mpdi002c/mpdi002c.pdf
footprint N16 (DIP, 16-Leads, Row Spacing 7.62mm, Pitch 2.54mm, Body 19.3x6.4mm)
pins: 1 1A (in), 2 1Y (hiz), 3 ~{1Z} (hiz), 4 G (in), 5 ~{2Z} (hiz), 6 2Y (hiz), 7 2A (in), 8 GND (power), 9 3A (in), 10 3Y (hiz), 11 ~{3Z} (hiz), 12 ~{G} (in), 13 ~{4Z} (hiz), 14 4Y (hiz), 15 4A (in), 16 VCC (power)

## SN75ALS172ANE4
designator U?
Quadruple Differential Line Driver, 4 TX / 0 RX, 5V, 0 to 70 degC, 16-Pin PDIP (N), Green (RoHS & no Sb/Br); PartNumber: SN75ALS172ANE4; Manufacturer: Texas Instruments; SubFamily: RS-422; Drivers Per Package: 4; ICC(Max)(mA): 55; Supply Voltage(s)(V): 5; ESD(kV): 2; Rating: Catalog; DatasheetVersion: SLLS121D; PackageVersion: revE, Dec-2002; PackageReference: N16; PackageDescription: 16-Pin Plastic Dual-In-Line Package, Row Spacing 7.62 mm, Pitch 2.54 mm; Mounting Technology: Through-hole; Eco-Plan: Green (RoHS & no Sb/Br); # of TX/RX: 4 TX / 0 RX; Footprint: AM26LS31; Isolated: No; Code_JEDEC: MS-001*; ComponentLink1Description: Datasheet; ComponentLink1URL: http://www.ti.com/general/docs/lit/getliterature.tsp?genericPartNumber=SN75ALS172A&fileType=pdf; ComponentLink2Description: Package Specification; ComponentLink2URL: http://www.ti.com/lit/ml/mpdi002c/mpdi002c.pdf
footprint N16 (DIP, 16-Leads, Row Spacing 7.62mm, Pitch 2.54mm, Body 19.3x6.4mm)
pins: 1 1A (in), 2 1Y (hiz), 3 ~{1Z} (hiz), 4 G (in), 5 ~{2Z} (hiz), 6 2Y (hiz), 7 2A (in), 8 GND (power), 9 3A (in), 10 3Y (hiz), 11 ~{3Z} (hiz), 12 ~{G} (in), 13 ~{4Z} (hiz), 14 4Y (hiz), 15 4A (in), 16 VCC (power)

## SN75ALS173N
designator U?
Quadruple Differential Line Receiver, 0 TX / 4 RX, 5V, 0 to 70 degC, 16-Pin PDIP (N), Pb-Free (RoHS); PartNumber: SN75ALS173N; Manufacturer: Texas Instruments; SubFamily: RS-422; Receivers Per Package: 4; ICC(Max)(mA): 24; Supply Voltage(s)(V): 5; ESD(kV): 2; Isolated: No; Rating: Catalog; DatasheetVersion: SLLS132C; PackageVersion: revE, Dec-2002; PackageReference: N16; PackageDescription: 16-Pin Plastic Dual-In-Line Package, Row Spacing 7.62 mm, Pitch 2.54 mm; Mounting Technology: Through-hole; Eco-Plan: Pb-Free (RoHS); # of TX/RX: 0 TX / 4 RX; Footprint: AM26LS32; Code_JEDEC: MS-001*; ComponentLink1Description: Datasheet; ComponentLink1URL: http://www.ti.com/general/docs/lit/getliterature.tsp?genericPartNumber=SN75ALS173&fileType=pdf; ComponentLink2Description: Package Specification; ComponentLink2URL: http://www.ti.com/lit/ml/mpdi002c/mpdi002c.pdf
footprint N16 (DIP, 16-Leads, Row Spacing 7.62mm, Pitch 2.54mm, Body 19.3x6.4mm)
pins: 1 ~{1B} (in), 2 1A (in), 3 1Y (hiz), 4 G (in), 5 2Y (hiz), 6 2A (in), 7 ~{2B} (in), 8 GND (power), 9 ~{3B} (in), 10 3A (in), 11 3Y (hiz), 12 ~{G} (in), 13 4Y (hiz), 14 4A (in), 15 ~{4B} (in), 16 VCC (power)

## SN75ALS173NSR
designator U?
Quadruple Differential Line Receiver, 0 TX / 4 RX, 5V, 0 to 70 degC, 16-Pin SO (NS), Pb-Free (RoHS); PartNumber: SN75ALS173NSR; Manufacturer: Texas Instruments; SubFamily: RS-422; Receivers Per Package: 4; ICC(Max)(mA): 24; Supply Voltage(s)(V): 5; ESD(kV): 2; Isolated: No; Rating: Catalog; DatasheetVersion: SLLS132C; PackageVersion: revC, Mar-2003; PackageReference: NS16; PackageDescription: 16-Pin Plastic Small Outline Package, 10.2 x 5.3 mm, Pitch 1.27 mm Pitch; Mounting Technology: Surface Mount; Eco-Plan: Pb-Free (RoHS); # of TX/RX: 0 TX / 4 RX; Footprint: AM26LS32; ComponentLink1Description: Datasheet; ComponentLink1URL: http://www.ti.com/general/docs/lit/getliterature.tsp?genericPartNumber=SN75ALS173&fileType=pdf; ComponentLink2Description: Package Specification; ComponentLink2URL: http://www.ti.com/litv/pdf/msop002a
footprint NS16_N (SOP, 16-Leads, Body 10.2x5.3mm, Pitch 1.27mm, IPC Medium Density)
footprint NS16_L (SOP, 16-Leads, Body 10.2x5.3mm, Pitch 1.27mm, IPC High Density)
footprint NS16_M (SOP, 16-Leads, Body 10.2x5.3mm, Pitch 1.27mm, IPC Low Density)
pins: 1 ~{1B} (in), 2 1A (in), 3 1Y (hiz), 4 G (in), 5 2Y (hiz), 6 2A (in), 7 ~{2B} (in), 8 GND (power), 9 ~{3B} (in), 10 3A (in), 11 3Y (hiz), 12 ~{G} (in), 13 4Y (hiz), 14 4A (in), 15 ~{4B} (in), 16 VCC (power)

## SN75ALS173NSRE4
designator U?
Quadruple Differential Line Receiver, 0 TX / 4 RX, 5V, 0 to 70 degC, 16-Pin SO (NS), Pb-Free (RoHS); PartNumber: SN75ALS173NSRE4; Manufacturer: Texas Instruments; SubFamily: RS-422; Receivers Per Package: 4; ICC(Max)(mA): 24; Supply Voltage(s)(V): 5; ESD(kV): 2; Isolated: No; Rating: Catalog; DatasheetVersion: SLLS132C; PackageVersion: revC, Mar-2003; PackageReference: NS16; PackageDescription: 16-Pin Plastic Small Outline Package, 10.2 x 5.3 mm, Pitch 1.27 mm Pitch; Mounting Technology: Surface Mount; Eco-Plan: Pb-Free (RoHS); # of TX/RX: 0 TX / 4 RX; Footprint: AM26LS32; ComponentLink1Description: Datasheet; ComponentLink1URL: http://www.ti.com/general/docs/lit/getliterature.tsp?genericPartNumber=SN75ALS173&fileType=pdf; ComponentLink2Description: Package Specification; ComponentLink2URL: http://www.ti.com/litv/pdf/msop002a
footprint NS16_N (SOP, 16-Leads, Body 10.2x5.3mm, Pitch 1.27mm, IPC Medium Density)
footprint NS16_L (SOP, 16-Leads, Body 10.2x5.3mm, Pitch 1.27mm, IPC High Density)
footprint NS16_M (SOP, 16-Leads, Body 10.2x5.3mm, Pitch 1.27mm, IPC Low Density)
pins: 1 ~{1B} (in), 2 1A (in), 3 1Y (hiz), 4 G (in), 5 2Y (hiz), 6 2A (in), 7 ~{2B} (in), 8 GND (power), 9 ~{3B} (in), 10 3A (in), 11 3Y (hiz), 12 ~{G} (in), 13 4Y (hiz), 14 4A (in), 15 ~{4B} (in), 16 VCC (power)

## SN75ALS173NSRG4
designator U?
Quadruple Differential Line Receiver, 0 TX / 4 RX, 5V, 0 to 70 degC, 16-Pin SO (NS), Pb-Free (RoHS); PartNumber: SN75ALS173NSRG4; Manufacturer: Texas Instruments; SubFamily: RS-422; Receivers Per Package: 4; ICC(Max)(mA): 24; Supply Voltage(s)(V): 5; ESD(kV): 2; Isolated: No; Rating: Catalog; DatasheetVersion: SLLS132C; PackageVersion: revC, Mar-2003; PackageReference: NS16; PackageDescription: 16-Pin Plastic Small Outline Package, 10.2 x 5.3 mm, Pitch 1.27 mm Pitch; Mounting Technology: Surface Mount; Eco-Plan: Pb-Free (RoHS); # of TX/RX: 0 TX / 4 RX; Footprint: AM26LS32; ComponentLink1Description: Datasheet; ComponentLink1URL: http://www.ti.com/general/docs/lit/getliterature.tsp?genericPartNumber=SN75ALS173&fileType=pdf; ComponentLink2Description: Package Specification; ComponentLink2URL: http://www.ti.com/litv/pdf/msop002a
footprint NS16_N (SOP, 16-Leads, Body 10.2x5.3mm, Pitch 1.27mm, IPC Medium Density)
footprint NS16_L (SOP, 16-Leads, Body 10.2x5.3mm, Pitch 1.27mm, IPC High Density)
footprint NS16_M (SOP, 16-Leads, Body 10.2x5.3mm, Pitch 1.27mm, IPC Low Density)
pins: 1 ~{1B} (in), 2 1A (in), 3 1Y (hiz), 4 G (in), 5 2Y (hiz), 6 2A (in), 7 ~{2B} (in), 8 GND (power), 9 ~{3B} (in), 10 3A (in), 11 3Y (hiz), 12 ~{G} (in), 13 4Y (hiz), 14 4A (in), 15 ~{4B} (in), 16 VCC (power)

## SN75ALS174ADW
designator U?
Quadruple Differential Line Driver, 4 TX / 0 RX, 5V, 0 to 70 degC, 20-Pin SOIC (DW), Green (RoHS & no Sb/Br); PartNumber: SN75ALS174ADW; Manufacturer: Texas Instruments; SubFamily: RS-422; Drivers Per Package: 4; ICC(Max)(mA): 55; Supply Voltage(s)(V): 5; ESD(kV): 2; Rating: Catalog; DatasheetVersion: SLLS122E; PackageVersion: revG, Jan-2011; PackageReference: DW20; PackageDescription: 20-Pin Plastic Small Outline Integrated Circuit, 12.8 x 7.5 mm, Pitch 1.27 mm Pitch; Mounting Technology: Surface Mount; Eco-Plan: Green (RoHS & no Sb/Br); # of TX/RX: 4 TX / 0 RX; Footprint: MC3487; Isolated: No; Code_JEDEC: MS-013-AC; ComponentLink1Description: Datasheet; ComponentLink1URL: http://www.ti.com/general/docs/lit/getliterature.tsp?genericPartNumber=SN75ALS174A&fileType=pdf; ComponentLink2Description: Package Specification; ComponentLink2URL: http://www.ti.com/lit/ml/mpds173a/mpds173a.pdf
footprint DW20_N (SOIC, 20-Leads, Body 12.8x7.5mm, Pitch 1.27mm, IPC Medium Density)
footprint DW20_L (SOIC, 20-Leads, Body 12.8x7.5mm, Pitch 1.27mm, IPC High Density)
footprint DW20_M (SOIC, 20-Leads, Body 12.8x7.5mm, Pitch 1.27mm, IPC Low Density)
pins: 1 1A (in), 2 1Y (hiz), 3 NC, 4 ~{1Z} (hiz), 5 1,2EN (in), 6 ~{2Z} (hiz), 7 NC, 8 2Y (hiz), 9 2A (in), 10 GND (power), 11 3A (in), 12 3Y (hiz), 13 NC, 14 ~{3Z} (hiz), 15 3,4EN (in), 16 ~{4Z} (hiz), 17 NC, 18 4Y (hiz), 19 4A (in), 20 VCC (power)

## SN75ALS174ADWE4
designator U?
Quadruple Differential Line Driver, 4 TX / 0 RX, 5V, 0 to 70 degC, 20-Pin SOIC (DW), Green (RoHS & no Sb/Br); PartNumber: SN75ALS174ADWE4; Manufacturer: Texas Instruments; SubFamily: RS-422; Drivers Per Package: 4; ICC(Max)(mA): 55; Supply Voltage(s)(V): 5; ESD(kV): 2; Rating: Catalog; DatasheetVersion: SLLS122E; PackageVersion: revG, Jan-2011; PackageReference: DW20; PackageDescription: 20-Pin Plastic Small Outline Integrated Circuit, 12.8 x 7.5 mm, Pitch 1.27 mm Pitch; Mounting Technology: Surface Mount; Eco-Plan: Green (RoHS & no Sb/Br); # of TX/RX: 4 TX / 0 RX; Footprint: MC3487; Isolated: No; Code_JEDEC: MS-013-AC; ComponentLink1Description: Datasheet; ComponentLink1URL: http://www.ti.com/general/docs/lit/getliterature.tsp?genericPartNumber=SN75ALS174A&fileType=pdf; ComponentLink2Description: Package Specification; ComponentLink2URL: http://www.ti.com/lit/ml/mpds173a/mpds173a.pdf
footprint DW20_N (SOIC, 20-Leads, Body 12.8x7.5mm, Pitch 1.27mm, IPC Medium Density)
footprint DW20_L (SOIC, 20-Leads, Body 12.8x7.5mm, Pitch 1.27mm, IPC High Density)
footprint DW20_M (SOIC, 20-Leads, Body 12.8x7.5mm, Pitch 1.27mm, IPC Low Density)
pins: 1 1A (in), 2 1Y (hiz), 3 NC, 4 ~{1Z} (hiz), 5 1,2EN (in), 6 ~{2Z} (hiz), 7 NC, 8 2Y (hiz), 9 2A (in), 10 GND (power), 11 3A (in), 12 3Y (hiz), 13 NC, 14 ~{3Z} (hiz), 15 3,4EN (in), 16 ~{4Z} (hiz), 17 NC, 18 4Y (hiz), 19 4A (in), 20 VCC (power)

## SN75ALS174ADWG4
designator U?
Quadruple Differential Line Driver, 4 TX / 0 RX, 5V, 0 to 70 degC, 20-Pin SOIC (DW), Green (RoHS & no Sb/Br); PartNumber: SN75ALS174ADWG4; Manufacturer: Texas Instruments; SubFamily: RS-422; Drivers Per Package: 4; ICC(Max)(mA): 55; Supply Voltage(s)(V): 5; ESD(kV): 2; Rating: Catalog; DatasheetVersion: SLLS122E; PackageVersion: revG, Jan-2011; PackageReference: DW20; PackageDescription: 20-Pin Plastic Small Outline Integrated Circuit, 12.8 x 7.5 mm, Pitch 1.27 mm Pitch; Mounting Technology: Surface Mount; Eco-Plan: Green (RoHS & no Sb/Br); # of TX/RX: 4 TX / 0 RX; Footprint: MC3487; Isolated: No; Code_JEDEC: MS-013-AC; ComponentLink1Description: Datasheet; ComponentLink1URL: http://www.ti.com/general/docs/lit/getliterature.tsp?genericPartNumber=SN75ALS174A&fileType=pdf; ComponentLink2Description: Package Specification; ComponentLink2URL: http://www.ti.com/lit/ml/mpds173a/mpds173a.pdf
footprint DW20_N (SOIC, 20-Leads, Body 12.8x7.5mm, Pitch 1.27mm, IPC Medium Density)
footprint DW20_L (SOIC, 20-Leads, Body 12.8x7.5mm, Pitch 1.27mm, IPC High Density)
footprint DW20_M (SOIC, 20-Leads, Body 12.8x7.5mm, Pitch 1.27mm, IPC Low Density)
pins: 1 1A (in), 2 1Y (hiz), 3 NC, 4 ~{1Z} (hiz), 5 1,2EN (in), 6 ~{2Z} (hiz), 7 NC, 8 2Y (hiz), 9 2A (in), 10 GND (power), 11 3A (in), 12 3Y (hiz), 13 NC, 14 ~{3Z} (hiz), 15 3,4EN (in), 16 ~{4Z} (hiz), 17 NC, 18 4Y (hiz), 19 4A (in), 20 VCC (power)

## SN75ALS174ADWR
designator U?
Quadruple Differential Line Driver, 4 TX / 0 RX, 5V, 0 to 70 degC, 20-Pin SOIC (DW), Green (RoHS & no Sb/Br); PartNumber: SN75ALS174ADWR; Manufacturer: Texas Instruments; SubFamily: RS-422; Drivers Per Package: 4; ICC(Max)(mA): 55; Supply Voltage(s)(V): 5; ESD(kV): 2; Rating: Catalog; DatasheetVersion: SLLS122E; PackageVersion: revG, Jan-2011; PackageReference: DW20; PackageDescription: 20-Pin Plastic Small Outline Integrated Circuit, 12.8 x 7.5 mm, Pitch 1.27 mm Pitch; Mounting Technology: Surface Mount; Eco-Plan: Green (RoHS & no Sb/Br); # of TX/RX: 4 TX / 0 RX; Footprint: MC3487; Isolated: No; Code_JEDEC: MS-013-AC; ComponentLink1Description: Datasheet; ComponentLink1URL: http://www.ti.com/general/docs/lit/getliterature.tsp?genericPartNumber=SN75ALS174A&fileType=pdf; ComponentLink2Description: Package Specification; ComponentLink2URL: http://www.ti.com/lit/ml/mpds173a/mpds173a.pdf
footprint DW20_N (SOIC, 20-Leads, Body 12.8x7.5mm, Pitch 1.27mm, IPC Medium Density)
footprint DW20_L (SOIC, 20-Leads, Body 12.8x7.5mm, Pitch 1.27mm, IPC High Density)
footprint DW20_M (SOIC, 20-Leads, Body 12.8x7.5mm, Pitch 1.27mm, IPC Low Density)
pins: 1 1A (in), 2 1Y (hiz), 3 NC, 4 ~{1Z} (hiz), 5 1,2EN (in), 6 ~{2Z} (hiz), 7 NC, 8 2Y (hiz), 9 2A (in), 10 GND (power), 11 3A (in), 12 3Y (hiz), 13 NC, 14 ~{3Z} (hiz), 15 3,4EN (in), 16 ~{4Z} (hiz), 17 NC, 18 4Y (hiz), 19 4A (in), 20 VCC (power)

## SN75ALS174ADWRE4
designator U?
Quadruple Differential Line Driver, 4 TX / 0 RX, 5V, 0 to 70 degC, 20-Pin SOIC (DW), Green (RoHS & no Sb/Br); PartNumber: SN75ALS174ADWRE4; Manufacturer: Texas Instruments; SubFamily: RS-422; Drivers Per Package: 4; ICC(Max)(mA): 55; Supply Voltage(s)(V): 5; ESD(kV): 2; Rating: Catalog; DatasheetVersion: SLLS122E; PackageVersion: revG, Jan-2011; PackageReference: DW20; PackageDescription: 20-Pin Plastic Small Outline Integrated Circuit, 12.8 x 7.5 mm, Pitch 1.27 mm Pitch; Mounting Technology: Surface Mount; Eco-Plan: Green (RoHS & no Sb/Br); # of TX/RX: 4 TX / 0 RX; Footprint: MC3487; Isolated: No; Code_JEDEC: MS-013-AC; ComponentLink1Description: Datasheet; ComponentLink1URL: http://www.ti.com/general/docs/lit/getliterature.tsp?genericPartNumber=SN75ALS174A&fileType=pdf; ComponentLink2Description: Package Specification; ComponentLink2URL: http://www.ti.com/lit/ml/mpds173a/mpds173a.pdf
footprint DW20_N (SOIC, 20-Leads, Body 12.8x7.5mm, Pitch 1.27mm, IPC Medium Density)
footprint DW20_L (SOIC, 20-Leads, Body 12.8x7.5mm, Pitch 1.27mm, IPC High Density)
footprint DW20_M (SOIC, 20-Leads, Body 12.8x7.5mm, Pitch 1.27mm, IPC Low Density)
pins: 1 1A (in), 2 1Y (hiz), 3 NC, 4 ~{1Z} (hiz), 5 1,2EN (in), 6 ~{2Z} (hiz), 7 NC, 8 2Y (hiz), 9 2A (in), 10 GND (power), 11 3A (in), 12 3Y (hiz), 13 NC, 14 ~{3Z} (hiz), 15 3,4EN (in), 16 ~{4Z} (hiz), 17 NC, 18 4Y (hiz), 19 4A (in), 20 VCC (power)

## SN75ALS174ADWRG4
designator U?
Quadruple Differential Line Driver, 4 TX / 0 RX, 5V, 0 to 70 degC, 20-Pin SOIC (DW), Green (RoHS & no Sb/Br); PartNumber: SN75ALS174ADWRG4; Manufacturer: Texas Instruments; SubFamily: RS-422; Drivers Per Package: 4; ICC(Max)(mA): 55; Supply Voltage(s)(V): 5; ESD(kV): 2; Rating: Catalog; DatasheetVersion: SLLS122E; PackageVersion: revG, Jan-2011; PackageReference: DW20; PackageDescription: 20-Pin Plastic Small Outline Integrated Circuit, 12.8 x 7.5 mm, Pitch 1.27 mm Pitch; Mounting Technology: Surface Mount; Eco-Plan: Green (RoHS & no Sb/Br); # of TX/RX: 4 TX / 0 RX; Footprint: MC3487; Isolated: No; Code_JEDEC: MS-013-AC; ComponentLink1Description: Datasheet; ComponentLink1URL: http://www.ti.com/general/docs/lit/getliterature.tsp?genericPartNumber=SN75ALS174A&fileType=pdf; ComponentLink2Description: Package Specification; ComponentLink2URL: http://www.ti.com/lit/ml/mpds173a/mpds173a.pdf
footprint DW20_N (SOIC, 20-Leads, Body 12.8x7.5mm, Pitch 1.27mm, IPC Medium Density)
footprint DW20_L (SOIC, 20-Leads, Body 12.8x7.5mm, Pitch 1.27mm, IPC High Density)
footprint DW20_M (SOIC, 20-Leads, Body 12.8x7.5mm, Pitch 1.27mm, IPC Low Density)
pins: 1 1A (in), 2 1Y (hiz), 3 NC, 4 ~{1Z} (hiz), 5 1,2EN (in), 6 ~{2Z} (hiz), 7 NC, 8 2Y (hiz), 9 2A (in), 10 GND (power), 11 3A (in), 12 3Y (hiz), 13 NC, 14 ~{3Z} (hiz), 15 3,4EN (in), 16 ~{4Z} (hiz), 17 NC, 18 4Y (hiz), 19 4A (in), 20 VCC (power)

## SN75ALS174AN
designator U?
Quadruple Differential Line Driver, 4 TX / 0 RX, 5V, 0 to 70 degC, 16-Pin PDIP (N), Pb-Free (RoHS); PartNumber: SN75ALS174AN; Manufacturer: Texas Instruments; Eco-Plan: Green (RoHS & no Sb/Br); SubFamily: RS-422; Drivers Per Package: 4; ICC(Max)(mA): 55; Supply Voltage(s)(V): 5; ESD(kV): 2; Isolated: No; Rating: Catalog; DatasheetVersion: SLLS122E; PackageVersion: revE, Dec-2002; PackageReference: N16; PackageDescription: 16-Pin Plastic Dual-In-Line Package, Row Spacing 7.62 mm, Pitch 2.54 mm; Mounting Technology: Through-hole; # of TX/RX: 4 TX / 0 RX; Footprint: MC3487; Code_JEDEC: MS-001*; ComponentLink1Description: Datasheet; ComponentLink1URL: http://www.ti.com/general/docs/lit/getliterature.tsp?genericPartNumber=SN75ALS174A&fileType=pdf; ComponentLink2Description: Package Specification; ComponentLink2URL: http://www.ti.com/lit/ml/mpdi002c/mpdi002c.pdf
footprint N16 (DIP, 16-Leads, Row Spacing 7.62mm, Pitch 2.54mm, Body 19.3x6.4mm)
pins: 1 1A (in), 2 1Y (hiz), 3 ~{1Z} (hiz), 4 1,2EN (in), 5 ~{2Z} (hiz), 6 2Y (hiz), 7 2A (in), 8 GND (power), 9 3A (in), 10 3Y (hiz), 11 ~{3Z} (hiz), 12 3,4EN (in), 13 ~{4Z} (hiz), 14 4Y (hiz), 15 4A (in), 16 VCC (power)

## SN75ALS174ANE4
designator U?
Quadruple Differential Line Driver, 4 TX / 0 RX, 5V, 0 to 70 degC, 16-Pin PDIP (N), Green (RoHS & no Sb/Br); PartNumber: SN75ALS174ANE4; Manufacturer: Texas Instruments; SubFamily: RS-422; Drivers Per Package: 4; ICC(Max)(mA): 55; Supply Voltage(s)(V): 5; ESD(kV): 2; Rating: Catalog; DatasheetVersion: SLLS122E; PackageVersion: revE, Dec-2002; PackageReference: N16; PackageDescription: 16-Pin Plastic Dual-In-Line Package, Row Spacing 7.62 mm, Pitch 2.54 mm; Mounting Technology: Through-hole; Eco-Plan: Green (RoHS & no Sb/Br); # of TX/RX: 4 TX / 0 RX; Footprint: MC3487; Isolated: No; Code_JEDEC: MS-001*; ComponentLink1Description: Datasheet; ComponentLink1URL: http://www.ti.com/general/docs/lit/getliterature.tsp?genericPartNumber=SN75ALS174A&fileType=pdf; ComponentLink2Description: Package Specification; ComponentLink2URL: http://www.ti.com/lit/ml/mpdi002c/mpdi002c.pdf
footprint N16 (DIP, 16-Leads, Row Spacing 7.62mm, Pitch 2.54mm, Body 19.3x6.4mm)
pins: 1 1A (in), 2 1Y (hiz), 3 ~{1Z} (hiz), 4 1,2EN (in), 5 ~{2Z} (hiz), 6 2Y (hiz), 7 2A (in), 8 GND (power), 9 3A (in), 10 3Y (hiz), 11 ~{3Z} (hiz), 12 3,4EN (in), 13 ~{4Z} (hiz), 14 4Y (hiz), 15 4A (in), 16 VCC (power)

## SN75ALS175N
designator U?
Quadruple Differential Line Receiver, 0 TX / 4 RX, 5V, 0 to 70 degC, 16-Pin PDIP (N), Pb-Free (RoHS); PartNumber: SN75ALS175N; Manufacturer: Texas Instruments; SubFamily: RS-422; Receivers Per Package: 4; ICC(Max)(mA): 24; Supply Voltage(s)(V): 5; ESD(kV): 2; Isolated: No; Rating: Catalog; DatasheetVersion: SLLS131C; PackageVersion: revE, Dec-2002; PackageReference: N16; PackageDescription: 16-Pin Plastic Dual-In-Line Package, Row Spacing 7.62 mm, Pitch 2.54 mm; Mounting Technology: Through-hole; Eco-Plan: Pb-Free (RoHS); # of TX/RX: 0 TX / 4 RX; Footprint: MC3486; Code_JEDEC: MS-001*; ComponentLink1Description: Datasheet; ComponentLink1URL: http://www.ti.com/general/docs/lit/getliterature.tsp?genericPartNumber=SN75ALS175&fileType=pdf; ComponentLink2Description: Package Specification; ComponentLink2URL: http://www.ti.com/lit/ml/mpdi002c/mpdi002c.pdf
footprint N16 (DIP, 16-Leads, Row Spacing 7.62mm, Pitch 2.54mm, Body 19.3x6.4mm)
pins: 1 ~{1B} (in), 2 1A (in), 3 1Y (hiz), 4 1,2EN (in), 5 2Y (hiz), 6 2A (in), 7 ~{2B} (in), 8 GND (power), 9 ~{3B} (in), 10 3A (in), 11 3Y (hiz), 12 3,4EN (in), 13 4Y (hiz), 14 4A (in), 15 ~{4B} (in), 16 VCC (power)